# Altium integrated library Cypress Clocks & Buffers Clock Distribution.IntLib: 321 symbols (part 21 of 25)
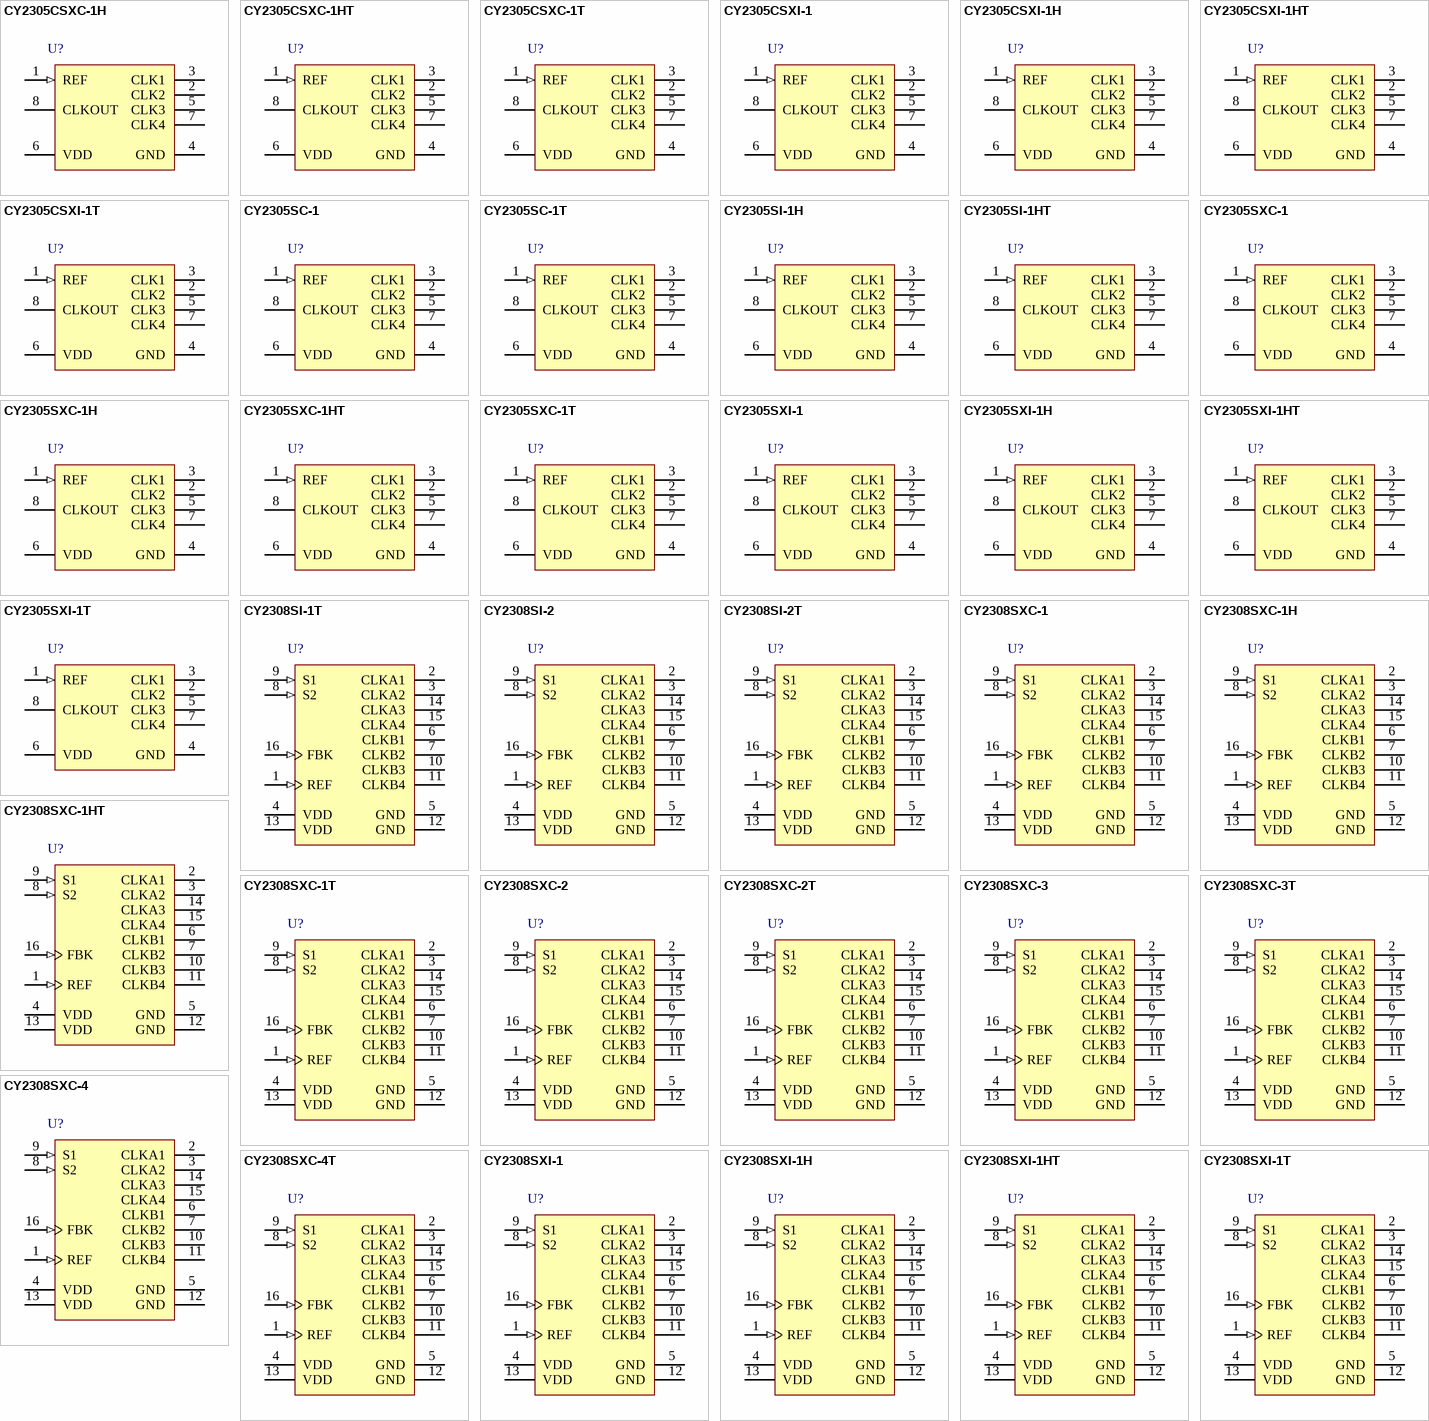
[diagram p36: symbols CY2305CSXC-1H to CY2308SXI-1T]

## CY2308SXC-1T
designator U?
Zero Delay Buffer, 3.3 V, 8 Outputs, 10 to 133 MHz, 0 to 70 degC, 16-Pin SOIC (SX16), Tape and Reel; Manufacturer: Cypress; PartNumber: CY2308SXC-1T; Input Frequency Max. (MHz): 133; Input Frequency Min. (MHz): 10; Max. Operating Voltage (V): 3.6; Min. Operating Voltage (V): 3; No. of Outputs: 8; DatasheetVersion: Rev. *N; PackageVersion: Rev. *E, 09/2012; PackageReference: SX16; PackageDescription: 16-Pin SOIC (150 MIL), Body 9.89 x 3.90 mm, Pitch 1.27 mm; Supplier 1: Digi-Key; Supplier Part Number 1: CY2308SXC-1T-ND; Supplier 2: Newark; Supplier Part Number 2: 19M2180; Supplier 3: Mouser; Supplier Part Number 3: 727-CY2308SXC-1T; Max. Operating Temp. (degreesC): 70; Min. Operating Temp. (degreesC): 0; Output Frequency Max. (MHz): 133; Output Frequency Min. (MHz): 10; Packing: Tape and Reel; RoHS: Pb-Free; Mounting Technology: Surface Mount; Code_JEDEC: MS-012; ComponentLink1Description: Manufacturer URL; ComponentLink1URL: http://www.cypress.com/; ComponentLink2Description: Datasheet; ComponentLink2URL: http://www.cypress.com/?docID=46690; ComponentLink3Description: Package Specification; ComponentLink3URL: http://www.cypress.com/?docID=39437
footprint CYP-SX16_N (SOIC, 16-Leads, Body 9.9x3.9mm, Pitch 1.27mm, IPC Medium Density)
footprint CYP-SX16_L (SOIC, 16-Leads, Body 9.9x3.9mm, Pitch 1.27mm, IPC High Density)
footprint CYP-SX16_M (SOIC, 16-Leads, Body 9.9x3.9mm, Pitch 1.27mm, IPC Low Density)
pins: 1 REF (in) "Input reference frequency", 2 CLKA1 (hiz) "Clock output, Bank A", 3 CLKA2 (hiz) "Clock output, Bank A", 4 VDD (power) "Power supply voltage", 5 GND (power) "Power supply ground", 6 CLKB1 (hiz) "Clock output, Bank B", 7 CLKB2 (hiz) "Clock output, Bank B", 8 S2 (in) "Select input, bit 2", 9 S1 (in) "Select input, bit 1", 10 CLKB3 (hiz) "Clock output, Bank B", 11 CLKB4 (hiz) "Clock output, Bank B", 12 GND (power) "Power supply ground", 13 VDD (power) "Power supply voltage", 14 CLKA3 (hiz) "Clock output, Bank A", 15 CLKA4 (hiz) "Clock output, Bank A", 16 FBK (in) "PLL feedback input"

## CY2308SXC-2
designator U?
Zero Delay Buffer, 3.3 V, 8 Outputs, 10 to 133 MHz, 0 to 70 degC, 16-Pin SOIC (SX16), Tube; Manufacturer: Cypress; PartNumber: CY2308SXC-2; Input Frequency Max. (MHz): 133; Input Frequency Min. (MHz): 10; Max. Operating Voltage (V): 3.6; Min. Operating Voltage (V): 3; No. of Outputs: 8; DatasheetVersion: Rev. *N; PackageVersion: Rev. *E, 09/2012; PackageReference: SX16; PackageDescription: 16-Pin SOIC (150 MIL), Body 9.89 x 3.90 mm, Pitch 1.27 mm; Supplier 1: Digi-Key; Supplier Part Number 1: 428-1769-5-ND; Supplier 2: Farnell; Supplier Part Number 2: 2131486; Supplier 3: Newark; Supplier Part Number 3: 19M2181; Supplier 4: Mouser; Supplier Part Number 4: 727-CY2308SXC-2; Max. Operating Temp. (degreesC): 70; Min. Operating Temp. (degreesC): 0; Output Frequency Max. (MHz): 133; Output Frequency Min. (MHz): 10; Packing: Tube; RoHS: Pb-Free; Mounting Technology: Surface Mount; Code_JEDEC: MS-012; ComponentLink1Description: Manufacturer URL; ComponentLink1URL: http://www.cypress.com/; ComponentLink2Description: Datasheet; ComponentLink2URL: http://www.cypress.com/?docID=46690; ComponentLink3Description: Package Specification; ComponentLink3URL: http://www.cypress.com/?docID=39437
footprint CYP-SX16_N (SOIC, 16-Leads, Body 9.9x3.9mm, Pitch 1.27mm, IPC Medium Density)
footprint CYP-SX16_L (SOIC, 16-Leads, Body 9.9x3.9mm, Pitch 1.27mm, IPC High Density)
footprint CYP-SX16_M (SOIC, 16-Leads, Body 9.9x3.9mm, Pitch 1.27mm, IPC Low Density)
pins: 1 REF (in) "Input reference frequency", 2 CLKA1 (hiz) "Clock output, Bank A", 3 CLKA2 (hiz) "Clock output, Bank A", 4 VDD (power) "Power supply voltage", 5 GND (power) "Power supply ground", 6 CLKB1 (hiz) "Clock output, Bank B", 7 CLKB2 (hiz) "Clock output, Bank B", 8 S2 (in) "Select input, bit 2", 9 S1 (in) "Select input, bit 1", 10 CLKB3 (hiz) "Clock output, Bank B", 11 CLKB4 (hiz) "Clock output, Bank B", 12 GND (power) "Power supply ground", 13 VDD (power) "Power supply voltage", 14 CLKA3 (hiz) "Clock output, Bank A", 15 CLKA4 (hiz) "Clock output, Bank A", 16 FBK (in) "PLL feedback input"

## CY2308SXC-2T
designator U?
Zero Delay Buffer, 3.3 V, 8 Outputs, 10 to 133 MHz, 0 to 70 degC, 16-Pin SOIC (SX16), Tape and Reel; Manufacturer: Cypress; PartNumber: CY2308SXC-2T; Input Frequency Max. (MHz): 133; Input Frequency Min. (MHz): 10; Max. Operating Voltage (V): 3.6; Min. Operating Voltage (V): 3; No. of Outputs: 8; DatasheetVersion: Rev. *N; PackageVersion: Rev. *E, 09/2012; PackageReference: SX16; PackageDescription: 16-Pin SOIC (150 MIL), Body 9.89 x 3.90 mm, Pitch 1.27 mm; Supplier 1: Digi-Key; Supplier Part Number 1: CY2308SXC-2T-ND; Supplier 2: Newark; Supplier Part Number 2: 19M2182; Supplier 3: Mouser; Supplier Part Number 3: 727-CY2308SXC-2T; Max. Operating Temp. (degreesC): 70; Min. Operating Temp. (degreesC): 0; Output Frequency Max. (MHz): 133; Output Frequency Min. (MHz): 10; Packing: Tape and Reel; RoHS: Pb-Free; Mounting Technology: Surface Mount; Code_JEDEC: MS-012; ComponentLink1Description: Manufacturer URL; ComponentLink1URL: http://www.cypress.com/; ComponentLink2Description: Datasheet; ComponentLink2URL: http://www.cypress.com/?docID=46690; ComponentLink3Description: Package Specification; ComponentLink3URL: http://www.cypress.com/?docID=39437
footprint CYP-SX16_N (SOIC, 16-Leads, Body 9.9x3.9mm, Pitch 1.27mm, IPC Medium Density)
footprint CYP-SX16_L (SOIC, 16-Leads, Body 9.9x3.9mm, Pitch 1.27mm, IPC High Density)
footprint CYP-SX16_M (SOIC, 16-Leads, Body 9.9x3.9mm, Pitch 1.27mm, IPC Low Density)
pins: 1 REF (in) "Input reference frequency", 2 CLKA1 (hiz) "Clock output, Bank A", 3 CLKA2 (hiz) "Clock output, Bank A", 4 VDD (power) "Power supply voltage", 5 GND (power) "Power supply ground", 6 CLKB1 (hiz) "Clock output, Bank B", 7 CLKB2 (hiz) "Clock output, Bank B", 8 S2 (in) "Select input, bit 2", 9 S1 (in) "Select input, bit 1", 10 CLKB3 (hiz) "Clock output, Bank B", 11 CLKB4 (hiz) "Clock output, Bank B", 12 GND (power) "Power supply ground", 13 VDD (power) "Power supply voltage", 14 CLKA3 (hiz) "Clock output, Bank A", 15 CLKA4 (hiz) "Clock output, Bank A", 16 FBK (in) "PLL feedback input"

## CY2308SXC-3
designator U?
Zero Delay Buffer, 3.3 V, 8 Outputs, 10 to 133 MHz, 0 to 70 degC, 16-Pin SOIC (SX16), Tube; Manufacturer: Cypress; PartNumber: CY2308SXC-3; Input Frequency Max. (MHz): 133; Input Frequency Min. (MHz): 10; Max. Operating Voltage (V): 3.6; Min. Operating Voltage (V): 3; No. of Outputs: 8; DatasheetVersion: Rev. *N; PackageVersion: Rev. *E, 09/2012; PackageReference: SX16; PackageDescription: 16-Pin SOIC (150 MIL), Body 9.89 x 3.90 mm, Pitch 1.27 mm; Supplier 1: Digi-Key; Supplier Part Number 1: 428-2198-5-ND; Supplier 2: Mouser; Supplier Part Number 2: 727-CY2308SXC3; Max. Operating Temp. (degreesC): 70; Min. Operating Temp. (degreesC): 0; Output Frequency Max. (MHz): 133; Output Frequency Min. (MHz): 10; Packing: Tube; RoHS: Pb-Free; Mounting Technology: Surface Mount; Code_JEDEC: MS-012; ComponentLink1Description: Manufacturer URL; ComponentLink1URL: http://www.cypress.com/; ComponentLink2Description: Datasheet; ComponentLink2URL: http://www.cypress.com/?docID=46690; ComponentLink3Description: Package Specification; ComponentLink3URL: http://www.cypress.com/?docID=39437
footprint CYP-SX16_N (SOIC, 16-Leads, Body 9.9x3.9mm, Pitch 1.27mm, IPC Medium Density)
footprint CYP-SX16_L (SOIC, 16-Leads, Body 9.9x3.9mm, Pitch 1.27mm, IPC High Density)
footprint CYP-SX16_M (SOIC, 16-Leads, Body 9.9x3.9mm, Pitch 1.27mm, IPC Low Density)
pins: 1 REF (in) "Input reference frequency", 2 CLKA1 (hiz) "Clock output, Bank A", 3 CLKA2 (hiz) "Clock output, Bank A", 4 VDD (power) "Power supply voltage", 5 GND (power) "Power supply ground", 6 CLKB1 (hiz) "Clock output, Bank B", 7 CLKB2 (hiz) "Clock output, Bank B", 8 S2 (in) "Select input, bit 2", 9 S1 (in) "Select input, bit 1", 10 CLKB3 (hiz) "Clock output, Bank B", 11 CLKB4 (hiz) "Clock output, Bank B", 12 GND (power) "Power supply ground", 13 VDD (power) "Power supply voltage", 14 CLKA3 (hiz) "Clock output, Bank A", 15 CLKA4 (hiz) "Clock output, Bank A", 16 FBK (in) "PLL feedback input"

## CY2308SXC-3T
designator U?
Zero Delay Buffer, 3.3 V, 8 Outputs, 10 to 133 MHz, 0 to 70 degC, 16-Pin SOIC (SX16), Tape and Reel; Manufacturer: Cypress; PartNumber: CY2308SXC-3T; Input Frequency Max. (MHz): 133; Input Frequency Min. (MHz): 10; Max. Operating Voltage (V): 3.6; Min. Operating Voltage (V): 3; No. of Outputs: 8; DatasheetVersion: Rev. *N; PackageVersion: Rev. *E, 09/2012; PackageReference: SX16; PackageDescription: 16-Pin SOIC (150 MIL), Body 9.89 x 3.90 mm, Pitch 1.27 mm; Supplier 1: Digi-Key; Supplier Part Number 1: CY2308SXC-3T-ND; Supplier 2: Mouser; Supplier Part Number 2: 727-CY2308SXC-3T; Max. Operating Temp. (degreesC): 70; Min. Operating Temp. (degreesC): 0; Output Frequency Max. (MHz): 133; Output Frequency Min. (MHz): 10; Packing: Tape and Reel; RoHS: Pb-Free; Mounting Technology: Surface Mount; Code_JEDEC: MS-012; ComponentLink1Description: Manufacturer URL; ComponentLink1URL: http://www.cypress.com/; ComponentLink2Description: Datasheet; ComponentLink2URL: http://www.cypress.com/?docID=46690; ComponentLink3Description: Package Specification; ComponentLink3URL: http://www.cypress.com/?docID=39437
footprint CYP-SX16_N (SOIC, 16-Leads, Body 9.9x3.9mm, Pitch 1.27mm, IPC Medium Density)
footprint CYP-SX16_L (SOIC, 16-Leads, Body 9.9x3.9mm, Pitch 1.27mm, IPC High Density)
footprint CYP-SX16_M (SOIC, 16-Leads, Body 9.9x3.9mm, Pitch 1.27mm, IPC Low Density)
pins: 1 REF (in) "Input reference frequency", 2 CLKA1 (hiz) "Clock output, Bank A", 3 CLKA2 (hiz) "Clock output, Bank A", 4 VDD (power) "Power supply voltage", 5 GND (power) "Power supply ground", 6 CLKB1 (hiz) "Clock output, Bank B", 7 CLKB2 (hiz) "Clock output, Bank B", 8 S2 (in) "Select input, bit 2", 9 S1 (in) "Select input, bit 1", 10 CLKB3 (hiz) "Clock output, Bank B", 11 CLKB4 (hiz) "Clock output, Bank B", 12 GND (power) "Power supply ground", 13 VDD (power) "Power supply voltage", 14 CLKA3 (hiz) "Clock output, Bank A", 15 CLKA4 (hiz) "Clock output, Bank A", 16 FBK (in) "PLL feedback input"

## CY2308SXC-4
designator U?
Zero Delay Buffer, 3.3 V, 8 Outputs, 10 to 133 MHz, 0 to 70 degC, 16-Pin SOIC (SX16), Tube; Manufacturer: Cypress; PartNumber: CY2308SXC-4; Input Frequency Max. (MHz): 133; Input Frequency Min. (MHz): 10; Max. Operating Voltage (V): 3.6; Min. Operating Voltage (V): 3; No. of Outputs: 8; DatasheetVersion: Rev. *N; PackageVersion: Rev. *E, 09/2012; PackageReference: SX16; PackageDescription: 16-Pin SOIC (150 MIL), Body 9.89 x 3.90 mm, Pitch 1.27 mm; Supplier 1: Digi-Key; Supplier Part Number 1: 428-2199-5-ND; Supplier 2: Mouser; Supplier Part Number 2: 727-CY2308SXC4; Max. Operating Temp. (degreesC): 70; Min. Operating Temp. (degreesC): 0; Output Frequency Max. (MHz): 133; Output Frequency Min. (MHz): 10; Packing: Tube; RoHS: Pb-Free; Mounting Technology: Surface Mount; Code_JEDEC: MS-012; ComponentLink1Description: Manufacturer URL; ComponentLink1URL: http://www.cypress.com/; ComponentLink2Description: Datasheet; ComponentLink2URL: http://www.cypress.com/?docID=46690; ComponentLink3Description: Package Specification; ComponentLink3URL: http://www.cypress.com/?docID=39437
footprint CYP-SX16_N (SOIC, 16-Leads, Body 9.9x3.9mm, Pitch 1.27mm, IPC Medium Density)
footprint CYP-SX16_L (SOIC, 16-Leads, Body 9.9x3.9mm, Pitch 1.27mm, IPC High Density)
footprint CYP-SX16_M (SOIC, 16-Leads, Body 9.9x3.9mm, Pitch 1.27mm, IPC Low Density)
pins: 1 REF (in) "Input reference frequency", 2 CLKA1 (hiz) "Clock output, Bank A", 3 CLKA2 (hiz) "Clock output, Bank A", 4 VDD (power) "Power supply voltage", 5 GND (power) "Power supply ground", 6 CLKB1 (hiz) "Clock output, Bank B", 7 CLKB2 (hiz) "Clock output, Bank B", 8 S2 (in) "Select input, bit 2", 9 S1 (in) "Select input, bit 1", 10 CLKB3 (hiz) "Clock output, Bank B", 11 CLKB4 (hiz) "Clock output, Bank B", 12 GND (power) "Power supply ground", 13 VDD (power) "Power supply voltage", 14 CLKA3 (hiz) "Clock output, Bank A", 15 CLKA4 (hiz) "Clock output, Bank A", 16 FBK (in) "PLL feedback input"

## CY2308SXC-4T
designator U?
Zero Delay Buffer, 3.3 V, 8 Outputs, 10 to 133 MHz, 0 to 70 degC, 16-Pin SOIC (SX16), Tape and Reel; Manufacturer: Cypress; PartNumber: CY2308SXC-4T; Input Frequency Max. (MHz): 133; Input Frequency Min. (MHz): 10; Max. Operating Voltage (V): 3.6; Min. Operating Voltage (V): 3; No. of Outputs: 8; DatasheetVersion: Rev. *N; PackageVersion: Rev. *E, 09/2012; PackageReference: SX16; PackageDescription: 16-Pin SOIC (150 MIL), Body 9.89 x 3.90 mm, Pitch 1.27 mm; Supplier 1: Digi-Key; Supplier Part Number 1: CY2308SXC-4T-ND; Supplier 2: Mouser; Supplier Part Number 2: 727-CY2308SXC-4T; Max. Operating Temp. (degreesC): 70; Min. Operating Temp. (degreesC): 0; Output Frequency Max. (MHz): 133; Output Frequency Min. (MHz): 10; Packing: Tape and Reel; RoHS: Pb-Free; Mounting Technology: Surface Mount; Code_JEDEC: MS-012; ComponentLink1Description: Manufacturer URL; ComponentLink1URL: http://www.cypress.com/; ComponentLink2Description: Datasheet; ComponentLink2URL: http://www.cypress.com/?docID=46690; ComponentLink3Description: Package Specification; ComponentLink3URL: http://www.cypress.com/?docID=39437
footprint CYP-SX16_N (SOIC, 16-Leads, Body 9.9x3.9mm, Pitch 1.27mm, IPC Medium Density)
footprint CYP-SX16_L (SOIC, 16-Leads, Body 9.9x3.9mm, Pitch 1.27mm, IPC High Density)
footprint CYP-SX16_M (SOIC, 16-Leads, Body 9.9x3.9mm, Pitch 1.27mm, IPC Low Density)
pins: 1 REF (in) "Input reference frequency", 2 CLKA1 (hiz) "Clock output, Bank A", 3 CLKA2 (hiz) "Clock output, Bank A", 4 VDD (power) "Power supply voltage", 5 GND (power) "Power supply ground", 6 CLKB1 (hiz) "Clock output, Bank B", 7 CLKB2 (hiz) "Clock output, Bank B", 8 S2 (in) "Select input, bit 2", 9 S1 (in) "Select input, bit 1", 10 CLKB3 (hiz) "Clock output, Bank B", 11 CLKB4 (hiz) "Clock output, Bank B", 12 GND (power) "Power supply ground", 13 VDD (power) "Power supply voltage", 14 CLKA3 (hiz) "Clock output, Bank A", 15 CLKA4 (hiz) "Clock output, Bank A", 16 FBK (in) "PLL feedback input"

## CY2308SXI-1
designator U?
Zero Delay Buffer, 3.3 V, 8 Outputs, 10 to 133 MHz, -40 to 85 degC, 16-Pin SOIC (SX16), Tape and Reel; Manufacturer: Cypress; PartNumber: CY2308SXI-1; Input Frequency Max. (MHz): 133; Input Frequency Min. (MHz): 10; Max. Operating Voltage (V): 3.6; Min. Operating Voltage (V): 3; No. of Outputs: 8; DatasheetVersion: Rev. *N; PackageVersion: Rev. *E, 09/2012; PackageReference: SX16; PackageDescription: 16-Pin SOIC (150 MIL), Body 9.89 x 3.90 mm, Pitch 1.27 mm; Supplier 1: Digi-Key; Supplier Part Number 1: 428-2896-5-ND; Supplier 2: Mouser; Supplier Part Number 2: 727-CY2308SXI-1; Max. Operating Temp. (degreesC): 85; Min. Operating Temp. (degreesC): -40; Output Frequency Max. (MHz): 133; Output Frequency Min. (MHz): 10; Packing: Tape and Reel; RoHS: Pb-Free; Mounting Technology: Surface Mount; Code_JEDEC: MS-012; ComponentLink1Description: Manufacturer URL; ComponentLink1URL: http://www.cypress.com/; ComponentLink2Description: Datasheet; ComponentLink2URL: http://www.cypress.com/?docID=46690; ComponentLink3Description: Package Specification; ComponentLink3URL: http://www.cypress.com/?docID=39437
footprint CYP-SX16_N (SOIC, 16-Leads, Body 9.9x3.9mm, Pitch 1.27mm, IPC Medium Density)
footprint CYP-SX16_L (SOIC, 16-Leads, Body 9.9x3.9mm, Pitch 1.27mm, IPC High Density)
footprint CYP-SX16_M (SOIC, 16-Leads, Body 9.9x3.9mm, Pitch 1.27mm, IPC Low Density)
pins: 1 REF (in) "Input reference frequency", 2 CLKA1 (hiz) "Clock output, Bank A", 3 CLKA2 (hiz) "Clock output, Bank A", 4 VDD (power) "Power supply voltage", 5 GND (power) "Power supply ground", 6 CLKB1 (hiz) "Clock output, Bank B", 7 CLKB2 (hiz) "Clock output, Bank B", 8 S2 (in) "Select input, bit 2", 9 S1 (in) "Select input, bit 1", 10 CLKB3 (hiz) "Clock output, Bank B", 11 CLKB4 (hiz) "Clock output, Bank B", 12 GND (power) "Power supply ground", 13 VDD (power) "Power supply voltage", 14 CLKA3 (hiz) "Clock output, Bank A", 15 CLKA4 (hiz) "Clock output, Bank A", 16 FBK (in) "PLL feedback input"

## CY2308SXI-1H
designator U?
Zero Delay Buffer, 3.3 V, 8 Outputs, 10 to 133 MHz, -40 to 85 degC, 16-Pin SOIC (SX16), Tube; Manufacturer: Cypress; PartNumber: CY2308SXI-1H; Input Frequency Max. (MHz): 133; Input Frequency Min. (MHz): 10; Max. Operating Voltage (V): 3.6; Min. Operating Voltage (V): 3; No. of Outputs: 8; DatasheetVersion: Rev. *N; PackageVersion: Rev. *E, 09/2012; PackageReference: SX16; PackageDescription: 16-Pin SOIC (150 MIL), Body 9.89 x 3.90 mm, Pitch 1.27 mm; Supplier 1: Digi-Key; Supplier Part Number 1: 428-2200-5-ND; Supplier 2: Farnell; Supplier Part Number 2: 1873006; Supplier 3: Newark; Supplier Part Number 3: 19M2190; Supplier 4: Newark; Supplier Part Number 4: 33P4169; Supplier 5: Mouser; Supplier Part Number 5: 727-CY2308SXI-1H; Max. Operating Temp. (degreesC): 85; Min. Operating Temp. (degreesC): -40; Output Frequency Max. (MHz): 133; Output Frequency Min. (MHz): 10; Packing: Tube; RoHS: Pb-Free; Mounting Technology: Surface Mount; Code_JEDEC: MS-012; ComponentLink1Description: Manufacturer URL; ComponentLink1URL: http://www.cypress.com/; ComponentLink2Description: Datasheet; ComponentLink2URL: http://www.cypress.com/?docID=46690; ComponentLink3Description: Package Specification; ComponentLink3URL: http://www.cypress.com/?docID=39437
footprint CYP-SX16_N (SOIC, 16-Leads, Body 9.9x3.9mm, Pitch 1.27mm, IPC Medium Density)
footprint CYP-SX16_L (SOIC, 16-Leads, Body 9.9x3.9mm, Pitch 1.27mm, IPC High Density)
footprint CYP-SX16_M (SOIC, 16-Leads, Body 9.9x3.9mm, Pitch 1.27mm, IPC Low Density)
pins: 1 REF (in) "Input reference frequency", 2 CLKA1 (hiz) "Clock output, Bank A", 3 CLKA2 (hiz) "Clock output, Bank A", 4 VDD (power) "Power supply voltage", 5 GND (power) "Power supply ground", 6 CLKB1 (hiz) "Clock output, Bank B", 7 CLKB2 (hiz) "Clock output, Bank B", 8 S2 (in) "Select input, bit 2", 9 S1 (in) "Select input, bit 1", 10 CLKB3 (hiz) "Clock output, Bank B", 11 CLKB4 (hiz) "Clock output, Bank B", 12 GND (power) "Power supply ground", 13 VDD (power) "Power supply voltage", 14 CLKA3 (hiz) "Clock output, Bank A", 15 CLKA4 (hiz) "Clock output, Bank A", 16 FBK (in) "PLL feedback input"

## CY2308SXI-1HT
designator U?
Zero Delay Buffer, 3.3 V, 8 Outputs, 10 to 133 MHz, -40 to 85 degC, 16-Pin SOIC (SX16), Tape and Reel; Manufacturer: Cypress; PartNumber: CY2308SXI-1HT; Input Frequency Max. (MHz): 133; Input Frequency Min. (MHz): 10; Max. Operating Voltage (V): 3.6; Min. Operating Voltage (V): 3; No. of Outputs: 8; DatasheetVersion: Rev. *N; PackageVersion: Rev. *E, 09/2012; PackageReference: SX16; PackageDescription: 16-Pin SOIC (150 MIL), Body 9.89 x 3.90 mm, Pitch 1.27 mm; Supplier 1: Digi-Key; Supplier Part Number 1: CY2308SXI-1HT-ND; Supplier 2: Mouser; Supplier Part Number 2: 727-CY2308SXI-1HT; Max. Operating Temp. (degreesC): 85; Min. Operating Temp. (degreesC): -40; Output Frequency Max. (MHz): 133; Output Frequency Min. (MHz): 10; Packing: Tape and Reel; RoHS: Pb-Free; Mounting Technology: Surface Mount; Code_JEDEC: MS-012; ComponentLink1Description: Manufacturer URL; ComponentLink1URL: http://www.cypress.com/; ComponentLink2Description: Datasheet; ComponentLink2URL: http://www.cypress.com/?docID=46690; ComponentLink3Description: Package Specification; ComponentLink3URL: http://www.cypress.com/?docID=39437
footprint CYP-SX16_N (SOIC, 16-Leads, Body 9.9x3.9mm, Pitch 1.27mm, IPC Medium Density)
footprint CYP-SX16_L (SOIC, 16-Leads, Body 9.9x3.9mm, Pitch 1.27mm, IPC High Density)
footprint CYP-SX16_M (SOIC, 16-Leads, Body 9.9x3.9mm, Pitch 1.27mm, IPC Low Density)
pins: 1 REF (in) "Input reference frequency", 2 CLKA1 (hiz) "Clock output, Bank A", 3 CLKA2 (hiz) "Clock output, Bank A", 4 VDD (power) "Power supply voltage", 5 GND (power) "Power supply ground", 6 CLKB1 (hiz) "Clock output, Bank B", 7 CLKB2 (hiz) "Clock output, Bank B", 8 S2 (in) "Select input, bit 2", 9 S1 (in) "Select input, bit 1", 10 CLKB3 (hiz) "Clock output, Bank B", 11 CLKB4 (hiz) "Clock output, Bank B", 12 GND (power) "Power supply ground", 13 VDD (power) "Power supply voltage", 14 CLKA3 (hiz) "Clock output, Bank A", 15 CLKA4 (hiz) "Clock output, Bank A", 16 FBK (in) "PLL feedback input"

## CY2308SXI-1T
designator U?
Zero Delay Buffer, 3.3 V, 8 Outputs, 10 to 133 MHz, -40 to 85 degC, 16-Pin SOIC (SX16), Tape and Reel; Manufacturer: Cypress; PartNumber: CY2308SXI-1T; Input Frequency Max. (MHz): 133; Input Frequency Min. (MHz): 10; Max. Operating Voltage (V): 3.6; Min. Operating Voltage (V): 3; No. of Outputs: 8; DatasheetVersion: Rev. *N; PackageVersion: Rev. *E, 09/2012; PackageReference: SX16; PackageDescription: 16-Pin SOIC (150 MIL), Body 9.89 x 3.90 mm, Pitch 1.27 mm; Supplier 1: Digi-Key; Supplier Part Number 1: CY2308SXI-1T-ND; Supplier 2: Mouser; Supplier Part Number 2: 727-CY2308SXI-1T; Max. Operating Temp. (degreesC): 85; Min. Operating Temp. (degreesC): -40; Output Frequency Max. (MHz): 133; Output Frequency Min. (MHz): 10; Packing: Tape and Reel; RoHS: Pb-Free; Mounting Technology: Surface Mount; Code_JEDEC: MS-012; ComponentLink1Description: Manufacturer URL; ComponentLink1URL: http://www.cypress.com/; ComponentLink2Description: Datasheet; ComponentLink2URL: http://www.cypress.com/?docID=46690; ComponentLink3Description: Package Specification; ComponentLink3URL: http://www.cypress.com/?docID=39437
footprint CYP-SX16_N (SOIC, 16-Leads, Body 9.9x3.9mm, Pitch 1.27mm, IPC Medium Density)
footprint CYP-SX16_L (SOIC, 16-Leads, Body 9.9x3.9mm, Pitch 1.27mm, IPC High Density)
footprint CYP-SX16_M (SOIC, 16-Leads, Body 9.9x3.9mm, Pitch 1.27mm, IPC Low Density)
pins: 1 REF (in) "Input reference frequency", 2 CLKA1 (hiz) "Clock output, Bank A", 3 CLKA2 (hiz) "Clock output, Bank A", 4 VDD (power) "Power supply voltage", 5 GND (power) "Power supply ground", 6 CLKB1 (hiz) "Clock output, Bank B", 7 CLKB2 (hiz) "Clock output, Bank B", 8 S2 (in) "Select input, bit 2", 9 S1 (in) "Select input, bit 1", 10 CLKB3 (hiz) "Clock output, Bank B", 11 CLKB4 (hiz) "Clock output, Bank B", 12 GND (power) "Power supply ground", 13 VDD (power) "Power supply voltage", 14 CLKA3 (hiz) "Clock output, Bank A", 15 CLKA4 (hiz) "Clock output, Bank A", 16 FBK (in) "PLL feedback input"

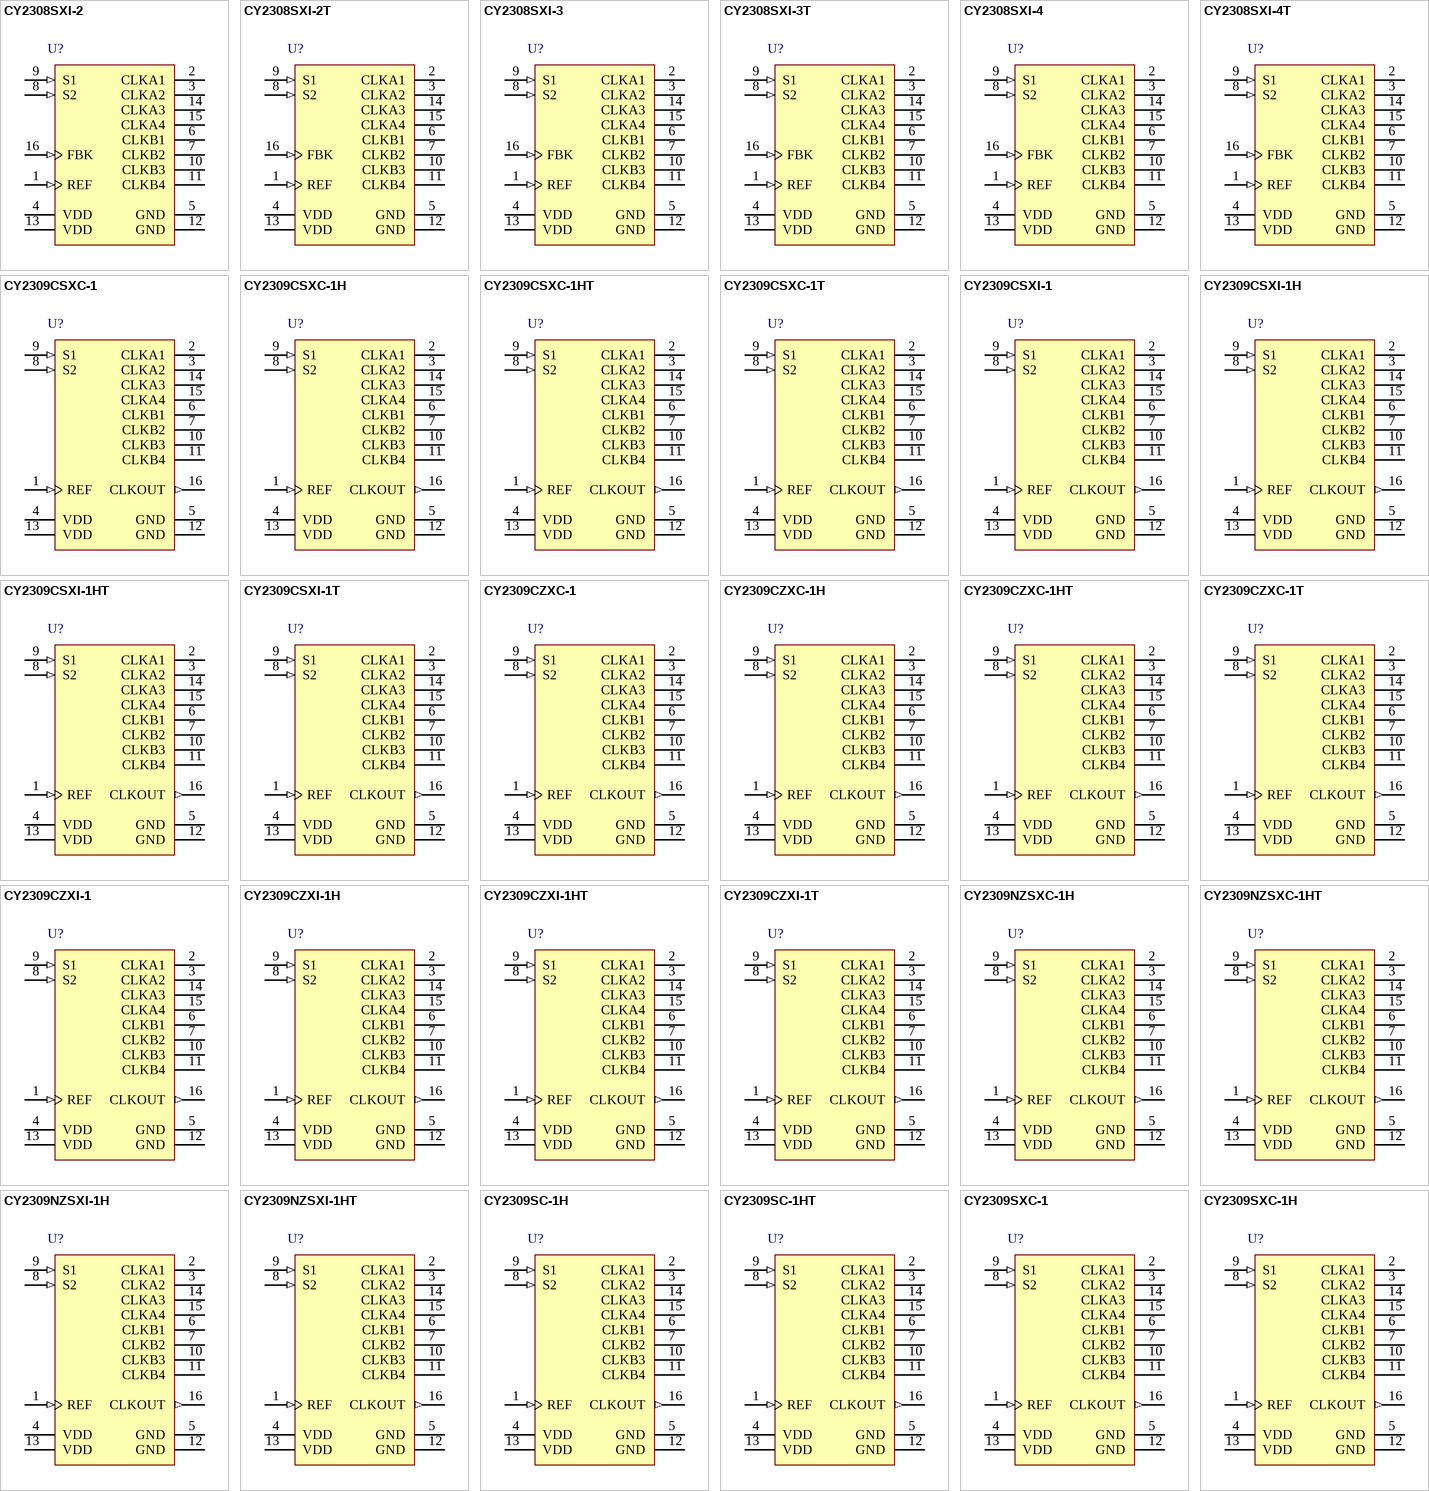
[diagram p13: symbols CY2308SXI-2 to CY2309SXC-1H]

## CY2308SXI-2
designator U?
Zero Delay Buffer, 3.3 V, 8 Outputs, 10 to 133 MHz, -40 to 85 degC, 16-Pin SOIC (SX16), Tube; Manufacturer: Cypress; PartNumber: CY2308SXI-2; Input Frequency Max. (MHz): 133; Input Frequency Min. (MHz): 10; Max. Operating Voltage (V): 3.6; Min. Operating Voltage (V): 3; No. of Outputs: 8; DatasheetVersion: Rev. *N; PackageVersion: Rev. *E, 09/2012; PackageReference: SX16; PackageDescription: 16-Pin SOIC (150 MIL), Body 9.89 x 3.90 mm, Pitch 1.27 mm; Supplier 1: Digi-Key; Supplier Part Number 1: CY2308SXI-2-ND; Supplier 2: Farnell; Supplier Part Number 2: 1876327; Supplier 3: Newark; Supplier Part Number 3: 19M2193; Supplier 4: Mouser; Supplier Part Number 4: 727-CY2308SXI-2; Max. Operating Temp. (degreesC): 85; Min. Operating Temp. (degreesC): -40; Output Frequency Max. (MHz): 133; Output Frequency Min. (MHz): 10; Packing: Tube; RoHS: Pb-Free; Mounting Technology: Surface Mount; Code_JEDEC: MS-012; ComponentLink1Description: Manufacturer URL; ComponentLink1URL: http://www.cypress.com/; ComponentLink2Description: Datasheet; ComponentLink2URL: http://www.cypress.com/?docID=46690; ComponentLink3Description: Package Specification; ComponentLink3URL: http://www.cypress.com/?docID=39437
footprint CYP-SX16_N (SOIC, 16-Leads, Body 9.9x3.9mm, Pitch 1.27mm, IPC Medium Density)
footprint CYP-SX16_L (SOIC, 16-Leads, Body 9.9x3.9mm, Pitch 1.27mm, IPC High Density)
footprint CYP-SX16_M (SOIC, 16-Leads, Body 9.9x3.9mm, Pitch 1.27mm, IPC Low Density)
pins: 1 REF (in) "Input reference frequency", 2 CLKA1 (hiz) "Clock output, Bank A", 3 CLKA2 (hiz) "Clock output, Bank A", 4 VDD (power) "Power supply voltage", 5 GND (power) "Power supply ground", 6 CLKB1 (hiz) "Clock output, Bank B", 7 CLKB2 (hiz) "Clock output, Bank B", 8 S2 (in) "Select input, bit 2", 9 S1 (in) "Select input, bit 1", 10 CLKB3 (hiz) "Clock output, Bank B", 11 CLKB4 (hiz) "Clock output, Bank B", 12 GND (power) "Power supply ground", 13 VDD (power) "Power supply voltage", 14 CLKA3 (hiz) "Clock output, Bank A", 15 CLKA4 (hiz) "Clock output, Bank A", 16 FBK (in) "PLL feedback input"

## CY2308SXI-2T
designator U?
Zero Delay Buffer, 3.3 V, 8 Outputs, 10 to 133 MHz, -40 to 85 degC, 16-Pin SOIC (SX16), Tape and Reel; Manufacturer: Cypress; PartNumber: CY2308SXI-2T; Input Frequency Max. (MHz): 133; Input Frequency Min. (MHz): 10; Max. Operating Voltage (V): 3.6; Min. Operating Voltage (V): 3; No. of Outputs: 8; DatasheetVersion: Rev. *N; PackageVersion: Rev. *E, 09/2012; PackageReference: SX16; PackageDescription: 16-Pin SOIC (150 MIL), Body 9.89 x 3.90 mm, Pitch 1.27 mm; Supplier 1: Digi-Key; Supplier Part Number 1: CY2308SXI-2T-ND; Supplier 2: Mouser; Supplier Part Number 2: 727-CY2308SXI-2T; Max. Operating Temp. (degreesC): 85; Min. Operating Temp. (degreesC): -40; Output Frequency Max. (MHz): 133; Output Frequency Min. (MHz): 10; Packing: Tape and Reel; RoHS: Pb-Free; Mounting Technology: Surface Mount; Code_JEDEC: MS-012; ComponentLink1Description: Manufacturer URL; ComponentLink1URL: http://www.cypress.com/; ComponentLink2Description: Datasheet; ComponentLink2URL: http://www.cypress.com/?docID=46690; ComponentLink3Description: Package Specification; ComponentLink3URL: http://www.cypress.com/?docID=39437
footprint CYP-SX16_N (SOIC, 16-Leads, Body 9.9x3.9mm, Pitch 1.27mm, IPC Medium Density)
footprint CYP-SX16_L (SOIC, 16-Leads, Body 9.9x3.9mm, Pitch 1.27mm, IPC High Density)
footprint CYP-SX16_M (SOIC, 16-Leads, Body 9.9x3.9mm, Pitch 1.27mm, IPC Low Density)
pins: 1 REF (in) "Input reference frequency", 2 CLKA1 (hiz) "Clock output, Bank A", 3 CLKA2 (hiz) "Clock output, Bank A", 4 VDD (power) "Power supply voltage", 5 GND (power) "Power supply ground", 6 CLKB1 (hiz) "Clock output, Bank B", 7 CLKB2 (hiz) "Clock output, Bank B", 8 S2 (in) "Select input, bit 2", 9 S1 (in) "Select input, bit 1", 10 CLKB3 (hiz) "Clock output, Bank B", 11 CLKB4 (hiz) "Clock output, Bank B", 12 GND (power) "Power supply ground", 13 VDD (power) "Power supply voltage", 14 CLKA3 (hiz) "Clock output, Bank A", 15 CLKA4 (hiz) "Clock output, Bank A", 16 FBK (in) "PLL feedback input"

## CY2308SXI-3
designator U?
Zero Delay Buffer, 3.3 V, 8 Outputs, 10 to 133 MHz, -40 to 85 degC, 16-Pin SOIC (SX16), Tube; Manufacturer: Cypress; PartNumber: CY2308SXI-3; Input Frequency Max. (MHz): 133; Input Frequency Min. (MHz): 10; Max. Operating Voltage (V): 3.6; Min. Operating Voltage (V): 3; No. of Outputs: 8; DatasheetVersion: Rev. *N; PackageVersion: Rev. *E, 09/2012; PackageReference: SX16; PackageDescription: 16-Pin SOIC (150 MIL), Body 9.89 x 3.90 mm, Pitch 1.27 mm; Supplier 1: Digi-Key; Supplier Part Number 1: CY2308SXI-3-ND; Supplier 2: Mouser; Supplier Part Number 2: 727-CY2308SXI3; Max. Operating Temp. (degreesC): 85; Min. Operating Temp. (degreesC): -40; Output Frequency Max. (MHz): 133; Output Frequency Min. (MHz): 10; Packing: Tube; RoHS: Pb-Free; Mounting Technology: Surface Mount; Code_JEDEC: MS-012; ComponentLink1Description: Manufacturer URL; ComponentLink1URL: http://www.cypress.com/; ComponentLink2Description: Datasheet; ComponentLink2URL: http://www.cypress.com/?docID=46690; ComponentLink3Description: Package Specification; ComponentLink3URL: http://www.cypress.com/?docID=39437
footprint CYP-SX16_N (SOIC, 16-Leads, Body 9.9x3.9mm, Pitch 1.27mm, IPC Medium Density)
footprint CYP-SX16_L (SOIC, 16-Leads, Body 9.9x3.9mm, Pitch 1.27mm, IPC High Density)
footprint CYP-SX16_M (SOIC, 16-Leads, Body 9.9x3.9mm, Pitch 1.27mm, IPC Low Density)
pins: 1 REF (in) "Input reference frequency", 2 CLKA1 (hiz) "Clock output, Bank A", 3 CLKA2 (hiz) "Clock output, Bank A", 4 VDD (power) "Power supply voltage", 5 GND (power) "Power supply ground", 6 CLKB1 (hiz) "Clock output, Bank B", 7 CLKB2 (hiz) "Clock output, Bank B", 8 S2 (in) "Select input, bit 2", 9 S1 (in) "Select input, bit 1", 10 CLKB3 (hiz) "Clock output, Bank B", 11 CLKB4 (hiz) "Clock output, Bank B", 12 GND (power) "Power supply ground", 13 VDD (power) "Power supply voltage", 14 CLKA3 (hiz) "Clock output, Bank A", 15 CLKA4 (hiz) "Clock output, Bank A", 16 FBK (in) "PLL feedback input"

## CY2308SXI-3T
designator U?
Zero Delay Buffer, 3.3 V, 8 Outputs, 10 to 133 MHz, -40 to 85 degC, 16-Pin SOIC (SX16), Tape and Reel; Manufacturer: Cypress; PartNumber: CY2308SXI-3T; Input Frequency Max. (MHz): 133; Input Frequency Min. (MHz): 10; Max. Operating Voltage (V): 3.6; Min. Operating Voltage (V): 3; No. of Outputs: 8; DatasheetVersion: Rev. *N; PackageVersion: Rev. *E, 09/2012; PackageReference: SX16; PackageDescription: 16-Pin SOIC (150 MIL), Body 9.89 x 3.90 mm, Pitch 1.27 mm; Supplier 1: Digi-Key; Supplier Part Number 1: CY2308SXI-3T-ND; Supplier 2: Mouser; Supplier Part Number 2: 727-CY2308SXI3T; Max. Operating Temp. (degreesC): 85; Min. Operating Temp. (degreesC): -40; Output Frequency Max. (MHz): 133; Output Frequency Min. (MHz): 10; Packing: Tape and Reel; RoHS: Pb-Free; Mounting Technology: Surface Mount; Code_JEDEC: MS-012; ComponentLink1Description: Manufacturer URL; ComponentLink1URL: http://www.cypress.com/; ComponentLink2Description: Datasheet; ComponentLink2URL: http://www.cypress.com/?docID=46690; ComponentLink3Description: Package Specification; ComponentLink3URL: http://www.cypress.com/?docID=39437
footprint CYP-SX16_N (SOIC, 16-Leads, Body 9.9x3.9mm, Pitch 1.27mm, IPC Medium Density)
footprint CYP-SX16_L (SOIC, 16-Leads, Body 9.9x3.9mm, Pitch 1.27mm, IPC High Density)
footprint CYP-SX16_M (SOIC, 16-Leads, Body 9.9x3.9mm, Pitch 1.27mm, IPC Low Density)
pins: 1 REF (in) "Input reference frequency", 2 CLKA1 (hiz) "Clock output, Bank A", 3 CLKA2 (hiz) "Clock output, Bank A", 4 VDD (power) "Power supply voltage", 5 GND (power) "Power supply ground", 6 CLKB1 (hiz) "Clock output, Bank B", 7 CLKB2 (hiz) "Clock output, Bank B", 8 S2 (in) "Select input, bit 2", 9 S1 (in) "Select input, bit 1", 10 CLKB3 (hiz) "Clock output, Bank B", 11 CLKB4 (hiz) "Clock output, Bank B", 12 GND (power) "Power supply ground", 13 VDD (power) "Power supply voltage", 14 CLKA3 (hiz) "Clock output, Bank A", 15 CLKA4 (hiz) "Clock output, Bank A", 16 FBK (in) "PLL feedback input"

## CY2308SXI-4
designator U?
Zero Delay Buffer, 3.3 V, 8 Outputs, 10 to 133 MHz, -40 to 85 degC, 16-Pin SOIC (SX16), Tube; Manufacturer: Cypress; PartNumber: CY2308SXI-4; Input Frequency Max. (MHz): 133; Input Frequency Min. (MHz): 10; Max. Operating Voltage (V): 3.6; Min. Operating Voltage (V): 3; No. of Outputs: 8; DatasheetVersion: Rev. *N; PackageVersion: Rev. *E, 09/2012; PackageReference: SX16; PackageDescription: 16-Pin SOIC (150 MIL), Body 9.89 x 3.90 mm, Pitch 1.27 mm; Supplier 1: Digi-Key; Supplier Part Number 1: 428-2201-5-ND; Supplier 2: Mouser; Supplier Part Number 2: 727-CY2308SXI-4; Max. Operating Temp. (degreesC): 85; Min. Operating Temp. (degreesC): -40; Output Frequency Max. (MHz): 133; Output Frequency Min. (MHz): 10; Packing: Tube; RoHS: Pb-Free; Mounting Technology: Surface Mount; Code_JEDEC: MS-012; ComponentLink1Description: Manufacturer URL; ComponentLink1URL: http://www.cypress.com/; ComponentLink2Description: Datasheet; ComponentLink2URL: http://www.cypress.com/?docID=46690; ComponentLink3Description: Package Specification; ComponentLink3URL: http://www.cypress.com/?docID=39437
footprint CYP-SX16_N (SOIC, 16-Leads, Body 9.9x3.9mm, Pitch 1.27mm, IPC Medium Density)
footprint CYP-SX16_L (SOIC, 16-Leads, Body 9.9x3.9mm, Pitch 1.27mm, IPC High Density)
footprint CYP-SX16_M (SOIC, 16-Leads, Body 9.9x3.9mm, Pitch 1.27mm, IPC Low Density)
pins: 1 REF (in) "Input reference frequency", 2 CLKA1 (hiz) "Clock output, Bank A", 3 CLKA2 (hiz) "Clock output, Bank A", 4 VDD (power) "Power supply voltage", 5 GND (power) "Power supply ground", 6 CLKB1 (hiz) "Clock output, Bank B", 7 CLKB2 (hiz) "Clock output, Bank B", 8 S2 (in) "Select input, bit 2", 9 S1 (in) "Select input, bit 1", 10 CLKB3 (hiz) "Clock output, Bank B", 11 CLKB4 (hiz) "Clock output, Bank B", 12 GND (power) "Power supply ground", 13 VDD (power) "Power supply voltage", 14 CLKA3 (hiz) "Clock output, Bank A", 15 CLKA4 (hiz) "Clock output, Bank A", 16 FBK (in) "PLL feedback input"

## CY2308SXI-4T
designator U?
Zero Delay Buffer, 3.3 V, 8 Outputs, 10 to 133 MHz, -40 to 85 degC, 16-Pin SOIC (SX16), Tape and Reel; Manufacturer: Cypress; PartNumber: CY2308SXI-4T; Input Frequency Max. (MHz): 133; Input Frequency Min. (MHz): 10; Max. Operating Voltage (V): 3.6; Min. Operating Voltage (V): 3; No. of Outputs: 8; DatasheetVersion: Rev. *N; PackageVersion: Rev. *E, 09/2012; PackageReference: SX16; PackageDescription: 16-Pin SOIC (150 MIL), Body 9.89 x 3.90 mm, Pitch 1.27 mm; Supplier 1: Digi-Key; Supplier Part Number 1: CY2308SXI-4T-ND; Supplier 2: Mouser; Supplier Part Number 2: 727-CY2308SXI-4T; Max. Operating Temp. (degreesC): 85; Min. Operating Temp. (degreesC): -40; Output Frequency Max. (MHz): 133; Output Frequency Min. (MHz): 10; Packing: Tape and Reel; RoHS: Pb-Free; Mounting Technology: Surface Mount; Code_JEDEC: MS-012; ComponentLink1Description: Manufacturer URL; ComponentLink1URL: http://www.cypress.com/; ComponentLink2Description: Datasheet; ComponentLink2URL: http://www.cypress.com/?docID=46690; ComponentLink3Description: Package Specification; ComponentLink3URL: http://www.cypress.com/?docID=39437
footprint CYP-SX16_N (SOIC, 16-Leads, Body 9.9x3.9mm, Pitch 1.27mm, IPC Medium Density)
footprint CYP-SX16_L (SOIC, 16-Leads, Body 9.9x3.9mm, Pitch 1.27mm, IPC High Density)
footprint CYP-SX16_M (SOIC, 16-Leads, Body 9.9x3.9mm, Pitch 1.27mm, IPC Low Density)
pins: 1 REF (in) "Input reference frequency", 2 CLKA1 (hiz) "Clock output, Bank A", 3 CLKA2 (hiz) "Clock output, Bank A", 4 VDD (power) "Power supply voltage", 5 GND (power) "Power supply ground", 6 CLKB1 (hiz) "Clock output, Bank B", 7 CLKB2 (hiz) "Clock output, Bank B", 8 S2 (in) "Select input, bit 2", 9 S1 (in) "Select input, bit 1", 10 CLKB3 (hiz) "Clock output, Bank B", 11 CLKB4 (hiz) "Clock output, Bank B", 12 GND (power) "Power supply ground", 13 VDD (power) "Power supply voltage", 14 CLKA3 (hiz) "Clock output, Bank A", 15 CLKA4 (hiz) "Clock output, Bank A", 16 FBK (in) "PLL feedback input"

## CY2309CSXC-1
designator U?
Zero Delay Clock Buffer, 3.3 V, 9 Outputs, 10 to 133.33 MHz, 0 to 70 degC, 16-Pin SOIC (SX16), Tube; Manufacturer: Cypress; PartNumber: CY2309CSXC-1; Input Frequency Max. (MHz): 133; Input Frequency Min. (MHz): 10; Max. Operating Voltage (V): 3.6; Min. Operating Voltage (V): 3; No. of Outputs: 9; Output Frequency Max. (MHz): 133.33; DatasheetVersion: Rev. *M; PackageVersion: Rev. *E, 09/2012; PackageReference: SX16; PackageDescription: 16-Pin SOIC (150 MIL), Body 9.89 x 3.90 mm, Pitch 1.27 mm; Supplier 1: Digi-Key; Supplier Part Number 1: CY2309CSXC-1-ND; Supplier 2: Mouser; Supplier Part Number 2: 727-CY2309CSXC-1; Max. Operating Temp. (degreesC): 70; Min. Operating Temp. (degreesC): 0; Output Frequency Min. (MHz): 10; Packing: Tube; RoHS: Pb-Free; Mounting Technology: Surface Mount; Code_JEDEC: MS-012; ComponentLink1Description: Manufacturer URL; ComponentLink1URL: http://www.cypress.com/; ComponentLink2Description: Datasheet; ComponentLink2URL: http://www.cypress.com/?docID=46973; ComponentLink3Description: Package Specification; ComponentLink3URL: http://www.cypress.com/?docID=39437
footprint CYP-SX16_N (SOIC, 16-Leads, Body 9.9x3.9mm, Pitch 1.27mm, IPC Medium Density)
footprint CYP-SX16_L (SOIC, 16-Leads, Body 9.9x3.9mm, Pitch 1.27mm, IPC High Density)
footprint CYP-SX16_M (SOIC, 16-Leads, Body 9.9x3.9mm, Pitch 1.27mm, IPC Low Density)
pins: 1 REF (in) "Input reference frequency", 2 CLKA1 (hiz) "Buffered clock output, Bank A", 3 CLKA2 (hiz) "Buffered clock output, Bank A", 4 VDD (power) "3.3 V supply", 5 GND (power) "Ground", 6 CLKB1 (hiz) "Buffered clock output, Bank B", 7 CLKB2 (hiz) "Buffered clock output, Bank B", 8 S2 (in) "Select input, bit 2", 9 S1 (in) "Select input, bit 1", 10 CLKB3 (hiz) "Buffered clock output, Bank B", 11 CLKB4 (hiz) "Buffered clock output, Bank B", 12 GND (power) "Ground", 13 VDD (power) "3.3 V supply", 14 CLKA3 (hiz) "Buffered clock output, Bank A", 15 CLKA4 (hiz) "Buffered clock output, Bank A", 16 CLKOUT (out) "Buffered output, internal feedback on this pin"

## CY2309CSXC-1H
designator U?
Zero Delay Clock Buffer, 3.3 V, 9 Outputs, 10 to 133.33 MHz, 0 to 70 degC, 16-Pin SOIC (SX16), Tube; Manufacturer: Cypress; PartNumber: CY2309CSXC-1H; Input Frequency Max. (MHz): 133; Input Frequency Min. (MHz): 10; Max. Operating Voltage (V): 3.6; Min. Operating Voltage (V): 3; No. of Outputs: 9; Output Frequency Max. (MHz): 133.33; DatasheetVersion: Rev. *M; PackageVersion: Rev. *E, 09/2012; PackageReference: SX16; PackageDescription: 16-Pin SOIC (150 MIL), Body 9.89 x 3.90 mm, Pitch 1.27 mm; Supplier 1: Digi-Key; Supplier Part Number 1: CY2309CSXC-1H-ND; Supplier 2: Mouser; Supplier Part Number 2: 727-CY2309CSXC-1H; Max. Operating Temp. (degreesC): 70; Min. Operating Temp. (degreesC): 0; Output Frequency Min. (MHz): 10; Packing: Tube; RoHS: Pb-Free; Mounting Technology: Surface Mount; Code_JEDEC: MS-012; ComponentLink1Description: Manufacturer URL; ComponentLink1URL: http://www.cypress.com/; ComponentLink2Description: Datasheet; ComponentLink2URL: http://www.cypress.com/?docID=46973; ComponentLink3Description: Package Specification; ComponentLink3URL: http://www.cypress.com/?docID=39437
footprint CYP-SX16_N (SOIC, 16-Leads, Body 9.9x3.9mm, Pitch 1.27mm, IPC Medium Density)
footprint CYP-SX16_L (SOIC, 16-Leads, Body 9.9x3.9mm, Pitch 1.27mm, IPC High Density)
footprint CYP-SX16_M (SOIC, 16-Leads, Body 9.9x3.9mm, Pitch 1.27mm, IPC Low Density)
pins: 1 REF (in) "Input reference frequency", 2 CLKA1 (hiz) "Buffered clock output, Bank A", 3 CLKA2 (hiz) "Buffered clock output, Bank A", 4 VDD (power) "3.3 V supply", 5 GND (power) "Ground", 6 CLKB1 (hiz) "Buffered clock output, Bank B", 7 CLKB2 (hiz) "Buffered clock output, Bank B", 8 S2 (in) "Select input, bit 2", 9 S1 (in) "Select input, bit 1", 10 CLKB3 (hiz) "Buffered clock output, Bank B", 11 CLKB4 (hiz) "Buffered clock output, Bank B", 12 GND (power) "Ground", 13 VDD (power) "3.3 V supply", 14 CLKA3 (hiz) "Buffered clock output, Bank A", 15 CLKA4 (hiz) "Buffered clock output, Bank A", 16 CLKOUT (out) "Buffered output, internal feedback on this pin"

## CY2309CSXC-1HT
designator U?
Zero Delay Clock Buffer, 3.3 V, 9 Outputs, 10 to 133.33 MHz, 0 to 70 degC, 16-Pin SOIC (SX16), Tape and Reel; Manufacturer: Cypress; PartNumber: CY2309CSXC-1HT; Input Frequency Max. (MHz): 133; Input Frequency Min. (MHz): 10; Max. Operating Voltage (V): 3.6; Min. Operating Voltage (V): 3; No. of Outputs: 9; Output Frequency Max. (MHz): 133.33; DatasheetVersion: Rev. *M; PackageVersion: Rev. *E, 09/2012; PackageReference: SX16; PackageDescription: 16-Pin SOIC (150 MIL), Body 9.89 x 3.90 mm, Pitch 1.27 mm; Supplier 1: Digi-Key; Supplier Part Number 1: CY2309CSXC-1HT-ND; Supplier 2: Mouser; Supplier Part Number 2: 727-CY2309CSXC1HT; Max. Operating Temp. (degreesC): 70; Min. Operating Temp. (degreesC): 0; Output Frequency Min. (MHz): 10; Packing: Tape and Reel; RoHS: Pb-Free; Mounting Technology: Surface Mount; Code_JEDEC: MS-012; ComponentLink1Description: Manufacturer URL; ComponentLink1URL: http://www.cypress.com/; ComponentLink2Description: Datasheet; ComponentLink2URL: http://www.cypress.com/?docID=46973; ComponentLink3Description: Package Specification; ComponentLink3URL: http://www.cypress.com/?docID=39437
footprint CYP-SX16_N (SOIC, 16-Leads, Body 9.9x3.9mm, Pitch 1.27mm, IPC Medium Density)
footprint CYP-SX16_L (SOIC, 16-Leads, Body 9.9x3.9mm, Pitch 1.27mm, IPC High Density)
footprint CYP-SX16_M (SOIC, 16-Leads, Body 9.9x3.9mm, Pitch 1.27mm, IPC Low Density)
pins: 1 REF (in) "Input reference frequency", 2 CLKA1 (hiz) "Buffered clock output, Bank A", 3 CLKA2 (hiz) "Buffered clock output, Bank A", 4 VDD (power) "3.3 V supply", 5 GND (power) "Ground", 6 CLKB1 (hiz) "Buffered clock output, Bank B", 7 CLKB2 (hiz) "Buffered clock output, Bank B", 8 S2 (in) "Select input, bit 2", 9 S1 (in) "Select input, bit 1", 10 CLKB3 (hiz) "Buffered clock output, Bank B", 11 CLKB4 (hiz) "Buffered clock output, Bank B", 12 GND (power) "Ground", 13 VDD (power) "3.3 V supply", 14 CLKA3 (hiz) "Buffered clock output, Bank A", 15 CLKA4 (hiz) "Buffered clock output, Bank A", 16 CLKOUT (out) "Buffered output, internal feedback on this pin"

## CY2309CSXC-1T
designator U?
Zero Delay Clock Buffer, 3.3 V, 9 Outputs, 10 to 133.33 MHz, 0 to 70 degC, 16-Pin SOIC (SX16), Tape and Reel; Manufacturer: Cypress; PartNumber: CY2309CSXC-1T; Input Frequency Max. (MHz): 133; Input Frequency Min. (MHz): 10; Max. Operating Voltage (V): 3.6; Min. Operating Voltage (V): 3; No. of Outputs: 9; Output Frequency Max. (MHz): 133.33; DatasheetVersion: Rev. *M; PackageVersion: Rev. *E, 09/2012; PackageReference: SX16; PackageDescription: 16-Pin SOIC (150 MIL), Body 9.89 x 3.90 mm, Pitch 1.27 mm; Supplier 1: Digi-Key; Supplier Part Number 1: CY2309CSXC-1T-ND; Supplier 2: Mouser; Supplier Part Number 2: 727-CY2309CSXC1T; Max. Operating Temp. (degreesC): 70; Min. Operating Temp. (degreesC): 0; Output Frequency Min. (MHz): 10; Packing: Tape and Reel; RoHS: Pb-Free; Mounting Technology: Surface Mount; Code_JEDEC: MS-012; ComponentLink1Description: Manufacturer URL; ComponentLink1URL: http://www.cypress.com/; ComponentLink2Description: Datasheet; ComponentLink2URL: http://www.cypress.com/?docID=46973; ComponentLink3Description: Package Specification; ComponentLink3URL: http://www.cypress.com/?docID=39437
footprint CYP-SX16_N (SOIC, 16-Leads, Body 9.9x3.9mm, Pitch 1.27mm, IPC Medium Density)
footprint CYP-SX16_L (SOIC, 16-Leads, Body 9.9x3.9mm, Pitch 1.27mm, IPC High Density)
footprint CYP-SX16_M (SOIC, 16-Leads, Body 9.9x3.9mm, Pitch 1.27mm, IPC Low Density)
pins: 1 REF (in) "Input reference frequency", 2 CLKA1 (hiz) "Buffered clock output, Bank A", 3 CLKA2 (hiz) "Buffered clock output, Bank A", 4 VDD (power) "3.3 V supply", 5 GND (power) "Ground", 6 CLKB1 (hiz) "Buffered clock output, Bank B", 7 CLKB2 (hiz) "Buffered clock output, Bank B", 8 S2 (in) "Select input, bit 2", 9 S1 (in) "Select input, bit 1", 10 CLKB3 (hiz) "Buffered clock output, Bank B", 11 CLKB4 (hiz) "Buffered clock output, Bank B", 12 GND (power) "Ground", 13 VDD (power) "3.3 V supply", 14 CLKA3 (hiz) "Buffered clock output, Bank A", 15 CLKA4 (hiz) "Buffered clock output, Bank A", 16 CLKOUT (out) "Buffered output, internal feedback on this pin"

## CY2309CSXI-1
designator U?
Zero Delay Clock Buffer, 3.3 V, 9 Outputs, 10 to 133.33 MHz, -40 to 85 degC, 16-Pin SOIC (SX16), Tube; Manufacturer: Cypress; PartNumber: CY2309CSXI-1; Input Frequency Max. (MHz): 133; Input Frequency Min. (MHz): 10; Max. Operating Voltage (V): 3.6; Min. Operating Voltage (V): 3; No. of Outputs: 9; Output Frequency Max. (MHz): 133.33; DatasheetVersion: Rev. *M; PackageVersion: Rev. *E, 09/2012; PackageReference: SX16; PackageDescription: 16-Pin SOIC (150 MIL), Body 9.89 x 3.90 mm, Pitch 1.27 mm; Supplier 1: Digi-Key; Supplier Part Number 1: CY2309CSXI-1-ND; Supplier 2: Mouser; Supplier Part Number 2: 727-CY2309CSXI-1; Max. Operating Temp. (degreesC): 85; Min. Operating Temp. (degreesC): -40; Output Frequency Min. (MHz): 10; Packing: Tube; RoHS: Pb-Free; Mounting Technology: Surface Mount; Code_JEDEC: MS-012; ComponentLink1Description: Manufacturer URL; ComponentLink1URL: http://www.cypress.com/; ComponentLink2Description: Datasheet; ComponentLink2URL: http://www.cypress.com/?docID=46973; ComponentLink3Description: Package Specification; ComponentLink3URL: http://www.cypress.com/?docID=39437
footprint CYP-SX16_N (SOIC, 16-Leads, Body 9.9x3.9mm, Pitch 1.27mm, IPC Medium Density)
footprint CYP-SX16_L (SOIC, 16-Leads, Body 9.9x3.9mm, Pitch 1.27mm, IPC High Density)
footprint CYP-SX16_M (SOIC, 16-Leads, Body 9.9x3.9mm, Pitch 1.27mm, IPC Low Density)
pins: 1 REF (in) "Input reference frequency", 2 CLKA1 (hiz) "Buffered clock output, Bank A", 3 CLKA2 (hiz) "Buffered clock output, Bank A", 4 VDD (power) "3.3 V supply", 5 GND (power) "Ground", 6 CLKB1 (hiz) "Buffered clock output, Bank B", 7 CLKB2 (hiz) "Buffered clock output, Bank B", 8 S2 (in) "Select input, bit 2", 9 S1 (in) "Select input, bit 1", 10 CLKB3 (hiz) "Buffered clock output, Bank B", 11 CLKB4 (hiz) "Buffered clock output, Bank B", 12 GND (power) "Ground", 13 VDD (power) "3.3 V supply", 14 CLKA3 (hiz) "Buffered clock output, Bank A", 15 CLKA4 (hiz) "Buffered clock output, Bank A", 16 CLKOUT (out) "Buffered output, internal feedback on this pin"

## CY2309CSXI-1H
designator U?
Zero Delay Clock Buffer, 3.3 V, 9 Outputs, 10 to 133.33 MHz, -40 to 85 degC, 16-Pin SOIC (SX16), Tube; Manufacturer: Cypress; PartNumber: CY2309CSXI-1H; Input Frequency Max. (MHz): 133; Input Frequency Min. (MHz): 10; Max. Operating Voltage (V): 3.6; Min. Operating Voltage (V): 3; No. of Outputs: 9; Output Frequency Max. (MHz): 133.33; DatasheetVersion: Rev. *M; PackageVersion: Rev. *E, 09/2012; PackageReference: SX16; PackageDescription: 16-Pin SOIC (150 MIL), Body 9.89 x 3.90 mm, Pitch 1.27 mm; Supplier 1: Digi-Key; Supplier Part Number 1: CY2309CSXI-1H-ND; Supplier 2: Mouser; Supplier Part Number 2: 727-CY2309CSXI-1H; Max. Operating Temp. (degreesC): 85; Min. Operating Temp. (degreesC): -40; Output Frequency Min. (MHz): 10; Packing: Tube; RoHS: Pb-Free; Mounting Technology: Surface Mount; Code_JEDEC: MS-012; ComponentLink1Description: Manufacturer URL; ComponentLink1URL: http://www.cypress.com/; ComponentLink2Description: Datasheet; ComponentLink2URL: http://www.cypress.com/?docID=46973; ComponentLink3Description: Package Specification; ComponentLink3URL: http://www.cypress.com/?docID=39437
footprint CYP-SX16_N (SOIC, 16-Leads, Body 9.9x3.9mm, Pitch 1.27mm, IPC Medium Density)
footprint CYP-SX16_L (SOIC, 16-Leads, Body 9.9x3.9mm, Pitch 1.27mm, IPC High Density)
footprint CYP-SX16_M (SOIC, 16-Leads, Body 9.9x3.9mm, Pitch 1.27mm, IPC Low Density)
pins: 1 REF (in) "Input reference frequency", 2 CLKA1 (hiz) "Buffered clock output, Bank A", 3 CLKA2 (hiz) "Buffered clock output, Bank A", 4 VDD (power) "3.3 V supply", 5 GND (power) "Ground", 6 CLKB1 (hiz) "Buffered clock output, Bank B", 7 CLKB2 (hiz) "Buffered clock output, Bank B", 8 S2 (in) "Select input, bit 2", 9 S1 (in) "Select input, bit 1", 10 CLKB3 (hiz) "Buffered clock output, Bank B", 11 CLKB4 (hiz) "Buffered clock output, Bank B", 12 GND (power) "Ground", 13 VDD (power) "3.3 V supply", 14 CLKA3 (hiz) "Buffered clock output, Bank A", 15 CLKA4 (hiz) "Buffered clock output, Bank A", 16 CLKOUT (out) "Buffered output, internal feedback on this pin"

## CY2309CSXI-1HT
designator U?
Zero Delay Clock Buffer, 3.3 V, 9 Outputs, 10 to 133.33 MHz, -40 to 85 degC, 16-Pin SOIC (SX16), Tape and Reel; Manufacturer: Cypress; PartNumber: CY2309CSXI-1HT; Input Frequency Max. (MHz): 133; Input Frequency Min. (MHz): 10; Max. Operating Voltage (V): 3.6; Min. Operating Voltage (V): 3; No. of Outputs: 9; Output Frequency Max. (MHz): 133.33; DatasheetVersion: Rev. *M; PackageVersion: Rev. *E, 09/2012; PackageReference: SX16; PackageDescription: 16-Pin SOIC (150 MIL), Body 9.89 x 3.90 mm, Pitch 1.27 mm; Supplier 1: Digi-Key; Supplier Part Number 1: CY2309CSXI-1HT-ND; Supplier 2: Mouser; Supplier Part Number 2: 727-CY2309CSXI1HT; Max. Operating Temp. (degreesC): 85; Min. Operating Temp. (degreesC): -40; Output Frequency Min. (MHz): 10; Packing: Tape and Reel; RoHS: Pb-Free; Mounting Technology: Surface Mount; Code_JEDEC: MS-012; ComponentLink1Description: Manufacturer URL; ComponentLink1URL: http://www.cypress.com/; ComponentLink2Description: Datasheet; ComponentLink2URL: http://www.cypress.com/?docID=46973; ComponentLink3Description: Package Specification; ComponentLink3URL: http://www.cypress.com/?docID=39437
footprint CYP-SX16_N (SOIC, 16-Leads, Body 9.9x3.9mm, Pitch 1.27mm, IPC Medium Density)
footprint CYP-SX16_L (SOIC, 16-Leads, Body 9.9x3.9mm, Pitch 1.27mm, IPC High Density)
footprint CYP-SX16_M (SOIC, 16-Leads, Body 9.9x3.9mm, Pitch 1.27mm, IPC Low Density)
pins: 1 REF (in) "Input reference frequency", 2 CLKA1 (hiz) "Buffered clock output, Bank A", 3 CLKA2 (hiz) "Buffered clock output, Bank A", 4 VDD (power) "3.3 V supply", 5 GND (power) "Ground", 6 CLKB1 (hiz) "Buffered clock output, Bank B", 7 CLKB2 (hiz) "Buffered clock output, Bank B", 8 S2 (in) "Select input, bit 2", 9 S1 (in) "Select input, bit 1", 10 CLKB3 (hiz) "Buffered clock output, Bank B", 11 CLKB4 (hiz) "Buffered clock output, Bank B", 12 GND (power) "Ground", 13 VDD (power) "3.3 V supply", 14 CLKA3 (hiz) "Buffered clock output, Bank A", 15 CLKA4 (hiz) "Buffered clock output, Bank A", 16 CLKOUT (out) "Buffered output, internal feedback on this pin"